# Altium footprint library TerminalBlock.PcbLib: 56 footprints (part 2 of 4)
Each footprint in its own frame and in the unit in brackets; x right, y up, seen from the top. Pads: shape width x height; smd on the part's side, far side on the other; paste and mask are expansions set on the pad; w line width, h text height; cw(c..) or ccw(c..) is an arc to the next point about the centre after c.
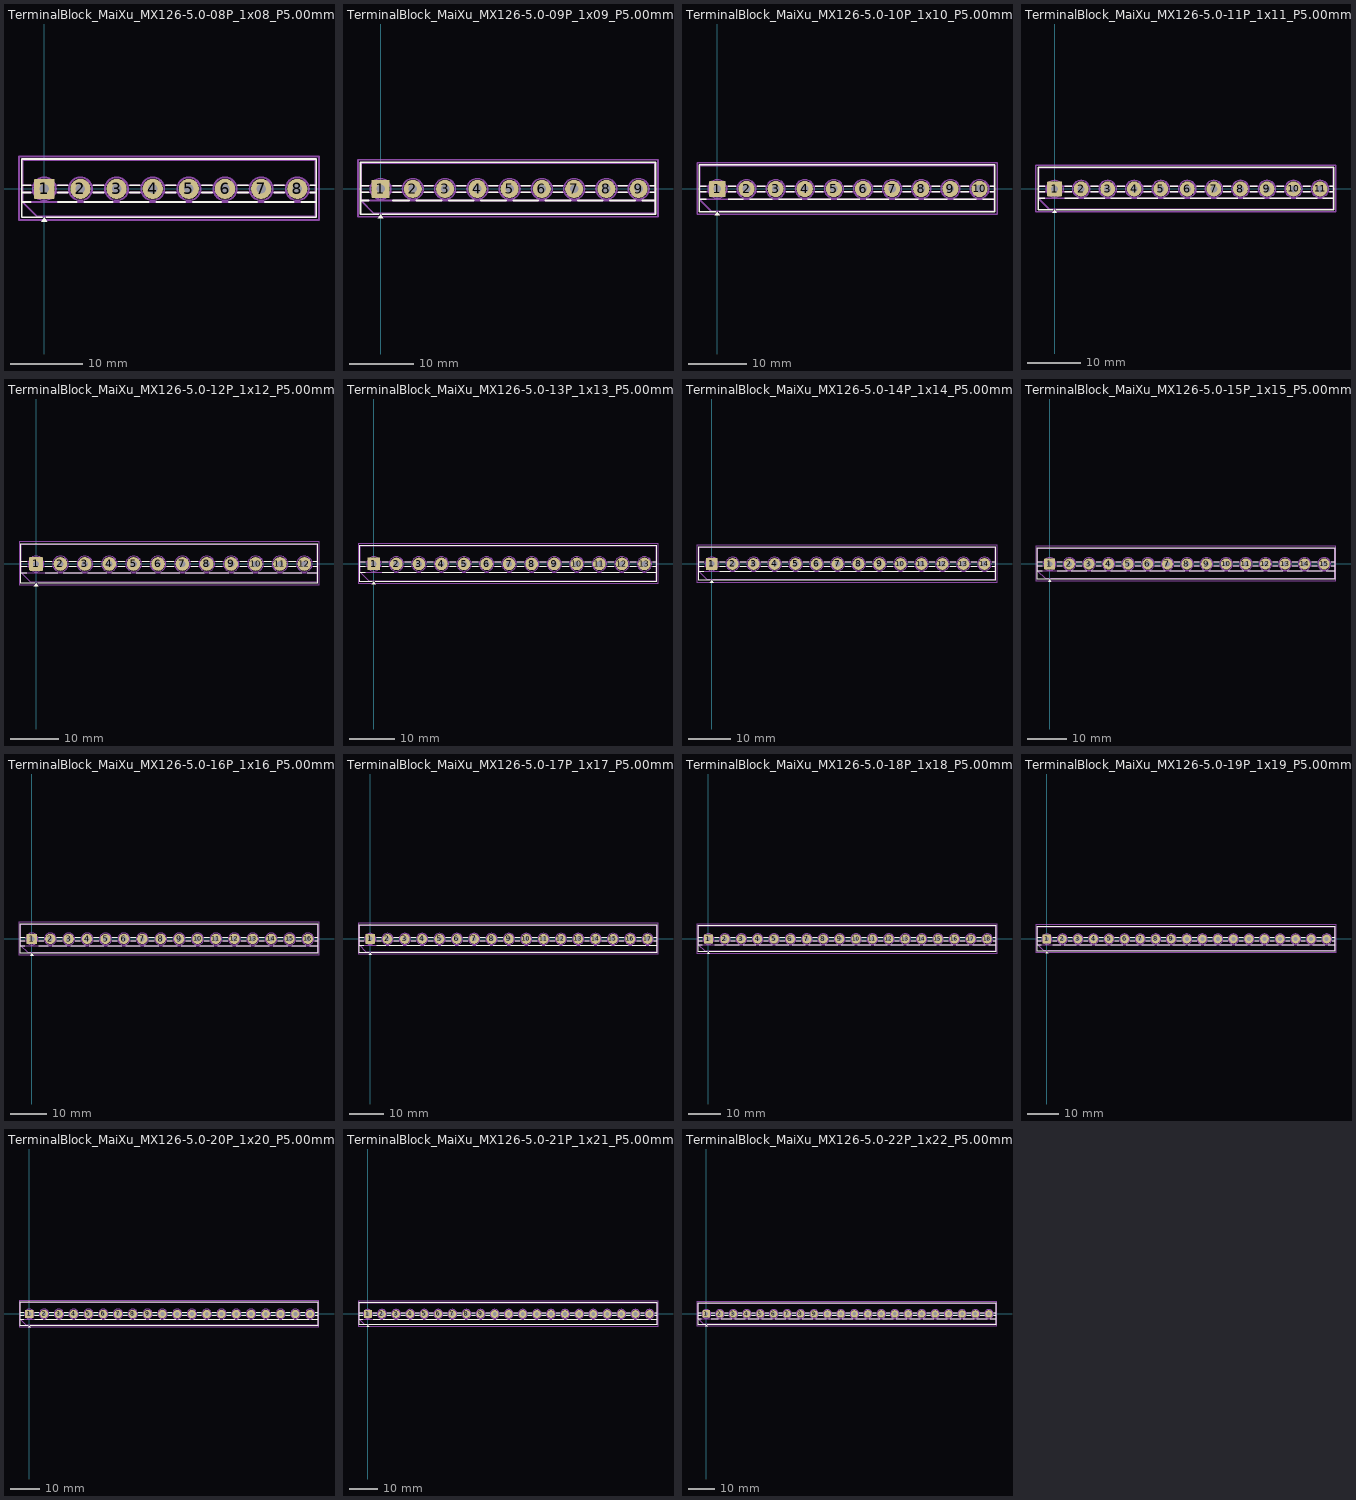
[diagram p1: the footprints below, top view; thin cyan lines are the x and y axes]

## TerminalBlock_MaiXu_MX126-5.0-08P_1x08_P5.00mm [mm]
pads (8):
  rrect9% 2.8x2.8 hole 1.3: 1(0,0)
  round 2.8 hole 1.3: 2(5,0) 3(10,0) 4(15,0) 5(20,0) 6(25,0) 7(30,0) 8(35,0)
F.SilkS:
  region: 0.44,-4.53 -0.44,-4.53 0,-3.92
  lines w0.254: -3.12,-1.8 -1.88,-1.8 ; -3.12,-0.5 -1.88,-0.5 ; -3.12,0.5 -1.88,0.5 ; -0.3,-3.92 -3.12,-3.92 -3.12,4.12 37.62,4.12 37.62,-3.92 0.3,-3.92 ; 1.88,-1.8 4.457,-1.8 ; 1.88,-0.5 3.188,-0.5 ; 1.88,0.5 3.188,0.5 ; 5.543,-1.8 9.457,-1.8 ; 6.812,-0.5 8.188,-0.5 ; 6.812,0.5 8.188,0.5 ; 10.543,-1.8 14.457,-1.8 ; 11.812,-0.5 13.188,-0.5 ; 11.812,0.5 13.188,0.5 ; 15.543,-1.8 19.457,-1.8 ; 16.812,-0.5 18.188,-0.5 ; 16.812,0.5 18.188,0.5 ; 20.543,-1.8 24.457,-1.8 ; 21.812,-0.5 23.188,-0.5 ; 21.812,0.5 23.188,0.5 ; 25.543,-1.8 29.457,-1.8 ; 26.812,-0.5 28.188,-0.5 ; 26.812,0.5 28.188,0.5 ; 30.543,-1.8 34.457,-1.8 ; 31.812,-0.5 33.188,-0.5 ; 31.812,0.5 33.188,0.5 ; 35.543,-1.8 37.62,-1.8 ; 36.812,-0.5 37.62,-0.5 ; 36.812,0.5 37.62,0.5
F.Fab:
  circle w0.254: c0,0 r1.6
  circle w0.254: c5,0 r1.6
  circle w0.254: c10,0 r1.6
  circle w0.254: c15,0 r1.6
  circle w0.254: c20,0 r1.6
  circle w0.254: c25,0 r1.6
  circle w0.254: c30,0 r1.6
  circle w0.254: c35,0 r1.6
  lines w0.254: -3,-1.8 37.5,-1.8 ; -3,-0.5 37.5,-0.5 ; -3,0.5 37.5,0.5 ; -1.213,-1.018 1.018,1.213 ; -1.018,-1.213 1.213,1.018 ; 3.787,-1.018 6.018,1.213 ; 3.982,-1.213 6.213,1.018 ; 8.787,-1.018 11.018,1.213 ; 8.982,-1.213 11.213,1.018 ; 13.787,-1.018 16.018,1.213 ; 13.982,-1.213 16.213,1.018 ; 18.787,-1.018 21.018,1.213 ; 18.982,-1.213 21.213,1.018 ; 23.787,-1.018 26.018,1.213 ; 23.982,-1.213 26.213,1.018 ; 28.787,-1.018 31.018,1.213 ; 28.982,-1.213 31.213,1.018 ; 33.787,-1.018 36.018,1.213 ; 33.982,-1.213 36.213,1.018 ; -3,-1.85 -3,4 37.5,4 37.5,-3.8 -1.05,-3.8 -3,-1.85
  text "'.Designator'" at 13.203,-3.49 h1
F.CrtYd:
  lines w0.254: -3.5,-4.31 -3.5,4.5 38,4.5 38,-4.31 -3.5,-4.31

## TerminalBlock_MaiXu_MX126-5.0-09P_1x09_P5.00mm [mm]
pads (9):
  rrect9% 2.8x2.8 hole 1.3: 1(0,0)
  round 2.8 hole 1.3: 2(5,0) 3(10,0) 4(15,0) 5(20,0) 6(25,0) 7(30,0) 8(35,0) 9(40,0)
F.SilkS:
  region: 0.44,-4.53 -0.44,-4.53 0,-3.92
  lines w0.254: -3.12,-1.8 -1.88,-1.8 ; -3.12,-0.5 -1.88,-0.5 ; -3.12,0.5 -1.88,0.5 ; -0.3,-3.92 -3.12,-3.92 -3.12,4.12 42.62,4.12 42.62,-3.92 0.3,-3.92 ; 1.88,-1.8 4.457,-1.8 ; 1.88,-0.5 3.188,-0.5 ; 1.88,0.5 3.188,0.5 ; 5.543,-1.8 9.457,-1.8 ; 6.812,-0.5 8.188,-0.5 ; 6.812,0.5 8.188,0.5 ; 10.543,-1.8 14.457,-1.8 ; 11.812,-0.5 13.188,-0.5 ; 11.812,0.5 13.188,0.5 ; 15.543,-1.8 19.457,-1.8 ; 16.812,-0.5 18.188,-0.5 ; 16.812,0.5 18.188,0.5 ; 20.543,-1.8 24.457,-1.8 ; 21.812,-0.5 23.188,-0.5 ; 21.812,0.5 23.188,0.5 ; 25.543,-1.8 29.457,-1.8 ; 26.812,-0.5 28.188,-0.5 ; 26.812,0.5 28.188,0.5 ; 30.543,-1.8 34.457,-1.8 ; 31.812,-0.5 33.188,-0.5 ; 31.812,0.5 33.188,0.5 ; 35.543,-1.8 39.457,-1.8 ; 36.812,-0.5 38.188,-0.5 ; 36.812,0.5 38.188,0.5 ; 40.543,-1.8 42.62,-1.8 ; 41.812,-0.5 42.62,-0.5 ; 41.812,0.5 42.62,0.5
F.Fab:
  circle w0.254: c0,0 r1.6
  circle w0.254: c5,0 r1.6
  circle w0.254: c10,0 r1.6
  circle w0.254: c15,0 r1.6
  circle w0.254: c20,0 r1.6
  circle w0.254: c25,0 r1.6
  circle w0.254: c30,0 r1.6
  circle w0.254: c35,0 r1.6
  circle w0.254: c40,0 r1.6
  lines w0.254: -3,-1.8 42.5,-1.8 ; -3,-0.5 42.5,-0.5 ; -3,0.5 42.5,0.5 ; -1.213,-1.018 1.018,1.213 ; -1.018,-1.213 1.213,1.018 ; 3.787,-1.018 6.018,1.213 ; 3.982,-1.213 6.213,1.018 ; 8.787,-1.018 11.018,1.213 ; 8.982,-1.213 11.213,1.018 ; 13.787,-1.018 16.018,1.213 ; 13.982,-1.213 16.213,1.018 ; 18.787,-1.018 21.018,1.213 ; 18.982,-1.213 21.213,1.018 ; 23.787,-1.018 26.018,1.213 ; 23.982,-1.213 26.213,1.018 ; 28.787,-1.018 31.018,1.213 ; 28.982,-1.213 31.213,1.018 ; 33.787,-1.018 36.018,1.213 ; 33.982,-1.213 36.213,1.018 ; 38.787,-1.018 41.018,1.213 ; 38.982,-1.213 41.213,1.018 ; -3,-1.85 -3,4 42.5,4 42.5,-3.8 -1.05,-3.8 -3,-1.85
  text "'.Designator'" at 15.703,-3.49 h1
F.CrtYd:
  lines w0.254: -3.5,-4.31 -3.5,4.5 43,4.5 43,-4.31 -3.5,-4.31

## TerminalBlock_MaiXu_MX126-5.0-10P_1x10_P5.00mm [mm]
pads (10):
  rrect9% 2.8x2.8 hole 1.3: 1(0,0)
  round 2.8 hole 1.3: 2(5,0) 3(10,0) 4(15,0) 5(20,0) 6(25,0) 7(30,0) 8(35,0) 9(40,0) 10(45,0)
F.SilkS:
  region: 0.44,-4.53 -0.44,-4.53 0,-3.92
  lines w0.254: -3.12,-1.8 -1.88,-1.8 ; -3.12,-0.5 -1.88,-0.5 ; -3.12,0.5 -1.88,0.5 ; -0.3,-3.92 -3.12,-3.92 -3.12,4.12 47.62,4.12 47.62,-3.92 0.3,-3.92 ; 1.88,-1.8 4.457,-1.8 ; 1.88,-0.5 3.188,-0.5 ; 1.88,0.5 3.188,0.5 ; 5.543,-1.8 9.457,-1.8 ; 6.812,-0.5 8.188,-0.5 ; 6.812,0.5 8.188,0.5 ; 10.543,-1.8 14.457,-1.8 ; 11.812,-0.5 13.188,-0.5 ; 11.812,0.5 13.188,0.5 ; 15.543,-1.8 19.457,-1.8 ; 16.812,-0.5 18.188,-0.5 ; 16.812,0.5 18.188,0.5 ; 20.543,-1.8 24.457,-1.8 ; 21.812,-0.5 23.188,-0.5 ; 21.812,0.5 23.188,0.5 ; 25.543,-1.8 29.457,-1.8 ; 26.812,-0.5 28.188,-0.5 ; 26.812,0.5 28.188,0.5 ; 30.543,-1.8 34.457,-1.8 ; 31.812,-0.5 33.188,-0.5 ; 31.812,0.5 33.188,0.5 ; 35.543,-1.8 39.457,-1.8 ; 36.812,-0.5 38.188,-0.5 ; 36.812,0.5 38.188,0.5 ; 40.543,-1.8 44.457,-1.8 ; 41.812,-0.5 43.188,-0.5 ; 41.812,0.5 43.188,0.5 ; 45.543,-1.8 47.62,-1.8 ; 46.812,-0.5 47.62,-0.5 ; 46.812,0.5 47.62,0.5
F.Fab:
  circle w0.254: c0,0 r1.6
  circle w0.254: c5,0 r1.6
  circle w0.254: c10,0 r1.6
  circle w0.254: c15,0 r1.6
  circle w0.254: c20,0 r1.6
  circle w0.254: c25,0 r1.6
  circle w0.254: c30,0 r1.6
  circle w0.254: c35,0 r1.6
  circle w0.254: c40,0 r1.6
  circle w0.254: c45,0 r1.6
  lines w0.254: -3,-1.8 47.5,-1.8 ; -3,-0.5 47.5,-0.5 ; -3,0.5 47.5,0.5 ; -1.213,-1.018 1.018,1.213 ; -1.018,-1.213 1.213,1.018 ; 3.787,-1.018 6.018,1.213 ; 3.982,-1.213 6.213,1.018 ; 8.787,-1.018 11.018,1.213 ; 8.982,-1.213 11.213,1.018 ; 13.787,-1.018 16.018,1.213 ; 13.982,-1.213 16.213,1.018 ; 18.787,-1.018 21.018,1.213 ; 18.982,-1.213 21.213,1.018 ; 23.787,-1.018 26.018,1.213 ; 23.982,-1.213 26.213,1.018 ; 28.787,-1.018 31.018,1.213 ; 28.982,-1.213 31.213,1.018 ; 33.787,-1.018 36.018,1.213 ; 33.982,-1.213 36.213,1.018 ; 38.787,-1.018 41.018,1.213 ; 38.982,-1.213 41.213,1.018 ; 43.787,-1.018 46.018,1.213 ; 43.982,-1.213 46.213,1.018 ; -3,-1.85 -3,4 47.5,4 47.5,-3.8 -1.05,-3.8 -3,-1.85
  text "'.Designator'" at 18.203,-3.49 h1
F.CrtYd:
  lines w0.254: -3.5,-4.31 -3.5,4.5 48,4.5 48,-4.31 -3.5,-4.31

## TerminalBlock_MaiXu_MX126-5.0-11P_1x11_P5.00mm [mm]
pads (11):
  rrect9% 2.8x2.8 hole 1.3: 1(0,0)
  round 2.8 hole 1.3: 2(5,0) 3(10,0) 4(15,0) 5(20,0) 6(25,0) 7(30,0) 8(35,0) 9(40,0) 10(45,0) 11(50,0)
F.SilkS:
  region: 0.44,-4.53 -0.44,-4.53 0,-3.92
  lines w0.254: -3.12,-1.8 -1.88,-1.8 ; -3.12,-0.5 -1.88,-0.5 ; -3.12,0.5 -1.88,0.5 ; -0.3,-3.92 -3.12,-3.92 -3.12,4.12 52.62,4.12 52.62,-3.92 0.3,-3.92 ; 1.88,-1.8 4.457,-1.8 ; 1.88,-0.5 3.188,-0.5 ; 1.88,0.5 3.188,0.5 ; 5.543,-1.8 9.457,-1.8 ; 6.812,-0.5 8.188,-0.5 ; 6.812,0.5 8.188,0.5 ; 10.543,-1.8 14.457,-1.8 ; 11.812,-0.5 13.188,-0.5 ; 11.812,0.5 13.188,0.5 ; 15.543,-1.8 19.457,-1.8 ; 16.812,-0.5 18.188,-0.5 ; 16.812,0.5 18.188,0.5 ; 20.543,-1.8 24.457,-1.8 ; 21.812,-0.5 23.188,-0.5 ; 21.812,0.5 23.188,0.5 ; 25.543,-1.8 29.457,-1.8 ; 26.812,-0.5 28.188,-0.5 ; 26.812,0.5 28.188,0.5 ; 30.543,-1.8 34.457,-1.8 ; 31.812,-0.5 33.188,-0.5 ; 31.812,0.5 33.188,0.5 ; 35.543,-1.8 39.457,-1.8 ; 36.812,-0.5 38.188,-0.5 ; 36.812,0.5 38.188,0.5 ; 40.543,-1.8 44.457,-1.8 ; 41.812,-0.5 43.188,-0.5 ; 41.812,0.5 43.188,0.5 ; 45.543,-1.8 49.457,-1.8 ; 46.812,-0.5 48.188,-0.5 ; 46.812,0.5 48.188,0.5 ; 50.543,-1.8 52.62,-1.8 ; 51.812,-0.5 52.62,-0.5 ; 51.812,0.5 52.62,0.5
F.Fab:
  circle w0.254: c0,0 r1.6
  circle w0.254: c5,0 r1.6
  circle w0.254: c10,0 r1.6
  circle w0.254: c15,0 r1.6
  circle w0.254: c20,0 r1.6
  circle w0.254: c25,0 r1.6
  circle w0.254: c30,0 r1.6
  circle w0.254: c35,0 r1.6
  circle w0.254: c40,0 r1.6
  circle w0.254: c45,0 r1.6
  circle w0.254: c50,0 r1.6
  lines w0.254: -3,-1.8 52.5,-1.8 ; -3,-0.5 52.5,-0.5 ; -3,0.5 52.5,0.5 ; -1.213,-1.018 1.018,1.213 ; -1.018,-1.213 1.213,1.018 ; 3.787,-1.018 6.018,1.213 ; 3.982,-1.213 6.213,1.018 ; 8.787,-1.018 11.018,1.213 ; 8.982,-1.213 11.213,1.018 ; 13.787,-1.018 16.018,1.213 ; 13.982,-1.213 16.213,1.018 ; 18.787,-1.018 21.018,1.213 ; 18.982,-1.213 21.213,1.018 ; 23.787,-1.018 26.018,1.213 ; 23.982,-1.213 26.213,1.018 ; 28.787,-1.018 31.018,1.213 ; 28.982,-1.213 31.213,1.018 ; 33.787,-1.018 36.018,1.213 ; 33.982,-1.213 36.213,1.018 ; 38.787,-1.018 41.018,1.213 ; 38.982,-1.213 41.213,1.018 ; 43.787,-1.018 46.018,1.213 ; 43.982,-1.213 46.213,1.018 ; 48.787,-1.018 51.018,1.213 ; 48.982,-1.213 51.213,1.018 ; -3,-1.85 -3,4 52.5,4 52.5,-3.8 -1.05,-3.8 -3,-1.85
  text "'.Designator'" at 20.703,-3.49 h1
F.CrtYd:
  lines w0.254: -3.5,-4.31 -3.5,4.5 53,4.5 53,-4.31 -3.5,-4.31

## TerminalBlock_MaiXu_MX126-5.0-12P_1x12_P5.00mm [mm]
pads (12):
  rrect9% 2.8x2.8 hole 1.3: 1(0,0)
  round 2.8 hole 1.3: 2(5,0) 3(10,0) 4(15,0) 5(20,0) 6(25,0) 7(30,0) 8(35,0) 9(40,0) 10(45,0) 11(50,0) 12(55,0)
F.SilkS:
  region: 0.44,-4.53 -0.44,-4.53 0,-3.92
  lines w0.254: -3.12,-1.8 -1.88,-1.8 ; -3.12,-0.5 -1.88,-0.5 ; -3.12,0.5 -1.88,0.5 ; -0.3,-3.92 -3.12,-3.92 -3.12,4.12 57.62,4.12 57.62,-3.92 0.3,-3.92 ; 1.88,-1.8 4.457,-1.8 ; 1.88,-0.5 3.188,-0.5 ; 1.88,0.5 3.188,0.5 ; 5.543,-1.8 9.457,-1.8 ; 6.812,-0.5 8.188,-0.5 ; 6.812,0.5 8.188,0.5 ; 10.543,-1.8 14.457,-1.8 ; 11.812,-0.5 13.188,-0.5 ; 11.812,0.5 13.188,0.5 ; 15.543,-1.8 19.457,-1.8 ; 16.812,-0.5 18.188,-0.5 ; 16.812,0.5 18.188,0.5 ; 20.543,-1.8 24.457,-1.8 ; 21.812,-0.5 23.188,-0.5 ; 21.812,0.5 23.188,0.5 ; 25.543,-1.8 29.457,-1.8 ; 26.812,-0.5 28.188,-0.5 ; 26.812,0.5 28.188,0.5 ; 30.543,-1.8 34.457,-1.8 ; 31.812,-0.5 33.188,-0.5 ; 31.812,0.5 33.188,0.5 ; 35.543,-1.8 39.457,-1.8 ; 36.812,-0.5 38.188,-0.5 ; 36.812,0.5 38.188,0.5 ; 40.543,-1.8 44.457,-1.8 ; 41.812,-0.5 43.188,-0.5 ; 41.812,0.5 43.188,0.5 ; 45.543,-1.8 49.457,-1.8 ; 46.812,-0.5 48.188,-0.5 ; 46.812,0.5 48.188,0.5 ; 50.543,-1.8 54.457,-1.8 ; 51.812,-0.5 53.188,-0.5 ; 51.812,0.5 53.188,0.5 ; 55.543,-1.8 57.62,-1.8 ; 56.812,-0.5 57.62,-0.5 ; 56.812,0.5 57.62,0.5
F.Fab:
  circle w0.254: c0,0 r1.6
  circle w0.254: c5,0 r1.6
  circle w0.254: c10,0 r1.6
  circle w0.254: c15,0 r1.6
  circle w0.254: c20,0 r1.6
  circle w0.254: c25,0 r1.6
  circle w0.254: c30,0 r1.6
  circle w0.254: c35,0 r1.6
  circle w0.254: c40,0 r1.6
  circle w0.254: c45,0 r1.6
  circle w0.254: c50,0 r1.6
  circle w0.254: c55,0 r1.6
  lines w0.254: -3,-1.8 57.5,-1.8 ; -3,-0.5 57.5,-0.5 ; -3,0.5 57.5,0.5 ; -1.213,-1.018 1.018,1.213 ; -1.018,-1.213 1.213,1.018 ; 3.787,-1.018 6.018,1.213 ; 3.982,-1.213 6.213,1.018 ; 8.787,-1.018 11.018,1.213 ; 8.982,-1.213 11.213,1.018 ; 13.787,-1.018 16.018,1.213 ; 13.982,-1.213 16.213,1.018 ; 18.787,-1.018 21.018,1.213 ; 18.982,-1.213 21.213,1.018 ; 23.787,-1.018 26.018,1.213 ; 23.982,-1.213 26.213,1.018 ; 28.787,-1.018 31.018,1.213 ; 28.982,-1.213 31.213,1.018 ; 33.787,-1.018 36.018,1.213 ; 33.982,-1.213 36.213,1.018 ; 38.787,-1.018 41.018,1.213 ; 38.982,-1.213 41.213,1.018 ; 43.787,-1.018 46.018,1.213 ; 43.982,-1.213 46.213,1.018 ; 48.787,-1.018 51.018,1.213 ; 48.982,-1.213 51.213,1.018 ; 53.787,-1.018 56.018,1.213 ; 53.982,-1.213 56.213,1.018 ; -3,-1.85 -3,4 57.5,4 57.5,-3.8 -1.05,-3.8 -3,-1.85
  text "'.Designator'" at 23.203,-3.49 h1
F.CrtYd:
  lines w0.254: -3.5,-4.31 -3.5,4.5 58,4.5 58,-4.31 -3.5,-4.31

## TerminalBlock_MaiXu_MX126-5.0-13P_1x13_P5.00mm [mm]
pads (13):
  rrect9% 2.8x2.8 hole 1.3: 1(0,0)
  round 2.8 hole 1.3: 2(5,0) 3(10,0) 4(15,0) 5(20,0) 6(25,0) 7(30,0) 8(35,0) 9(40,0) 10(45,0) 11(50,0) 12(55,0) 13(60,0)
F.SilkS:
  region: 0.44,-4.53 -0.44,-4.53 0,-3.92
  lines w0.254: -3.12,-1.8 -1.88,-1.8 ; -3.12,-0.5 -1.88,-0.5 ; -3.12,0.5 -1.88,0.5 ; -0.3,-3.92 -3.12,-3.92 -3.12,4.12 62.62,4.12 62.62,-3.92 0.3,-3.92 ; 1.88,-1.8 4.457,-1.8 ; 1.88,-0.5 3.188,-0.5 ; 1.88,0.5 3.188,0.5 ; 5.543,-1.8 9.457,-1.8 ; 6.812,-0.5 8.188,-0.5 ; 6.812,0.5 8.188,0.5 ; 10.543,-1.8 14.457,-1.8 ; 11.812,-0.5 13.188,-0.5 ; 11.812,0.5 13.188,0.5 ; 15.543,-1.8 19.457,-1.8 ; 16.812,-0.5 18.188,-0.5 ; 16.812,0.5 18.188,0.5 ; 20.543,-1.8 24.457,-1.8 ; 21.812,-0.5 23.188,-0.5 ; 21.812,0.5 23.188,0.5 ; 25.543,-1.8 29.457,-1.8 ; 26.812,-0.5 28.188,-0.5 ; 26.812,0.5 28.188,0.5 ; 30.543,-1.8 34.457,-1.8 ; 31.812,-0.5 33.188,-0.5 ; 31.812,0.5 33.188,0.5 ; 35.543,-1.8 39.457,-1.8 ; 36.812,-0.5 38.188,-0.5 ; 36.812,0.5 38.188,0.5 ; 40.543,-1.8 44.457,-1.8 ; 41.812,-0.5 43.188,-0.5 ; 41.812,0.5 43.188,0.5 ; 45.543,-1.8 49.457,-1.8 ; 46.812,-0.5 48.188,-0.5 ; 46.812,0.5 48.188,0.5 ; 50.543,-1.8 54.457,-1.8 ; 51.812,-0.5 53.188,-0.5 ; 51.812,0.5 53.188,0.5 ; 55.543,-1.8 59.457,-1.8 ; 56.812,-0.5 58.188,-0.5 ; 56.812,0.5 58.188,0.5 ; 60.543,-1.8 62.62,-1.8 ; 61.812,-0.5 62.62,-0.5 ; 61.812,0.5 62.62,0.5
F.Fab:
  circle w0.254: c0,0 r1.6
  circle w0.254: c5,0 r1.6
  circle w0.254: c10,0 r1.6
  circle w0.254: c15,0 r1.6
  circle w0.254: c20,0 r1.6
  circle w0.254: c25,0 r1.6
  circle w0.254: c30,0 r1.6
  circle w0.254: c35,0 r1.6
  circle w0.254: c40,0 r1.6
  circle w0.254: c45,0 r1.6
  circle w0.254: c50,0 r1.6
  circle w0.254: c55,0 r1.6
  circle w0.254: c60,0 r1.6
  lines w0.254: -3,-1.8 62.5,-1.8 ; -3,-0.5 62.5,-0.5 ; -3,0.5 62.5,0.5 ; -1.213,-1.018 1.018,1.213 ; -1.018,-1.213 1.213,1.018 ; 3.787,-1.018 6.018,1.213 ; 3.982,-1.213 6.213,1.018 ; 8.787,-1.018 11.018,1.213 ; 8.982,-1.213 11.213,1.018 ; 13.787,-1.018 16.018,1.213 ; 13.982,-1.213 16.213,1.018 ; 18.787,-1.018 21.018,1.213 ; 18.982,-1.213 21.213,1.018 ; 23.787,-1.018 26.018,1.213 ; 23.982,-1.213 26.213,1.018 ; 28.787,-1.018 31.018,1.213 ; 28.982,-1.213 31.213,1.018 ; 33.787,-1.018 36.018,1.213 ; 33.982,-1.213 36.213,1.018 ; 38.787,-1.018 41.018,1.213 ; 38.982,-1.213 41.213,1.018 ; 43.787,-1.018 46.018,1.213 ; 43.982,-1.213 46.213,1.018 ; 48.787,-1.018 51.018,1.213 ; 48.982,-1.213 51.213,1.018 ; 53.787,-1.018 56.018,1.213 ; 53.982,-1.213 56.213,1.018 ; 58.787,-1.018 61.018,1.213 ; 58.982,-1.213 61.213,1.018 ; -3,-1.85 -3,4 62.5,4 62.5,-3.8 -1.05,-3.8 -3,-1.85
  text "'.Designator'" at 25.703,-3.49 h1
F.CrtYd:
  lines w0.254: -3.5,-4.31 -3.5,4.5 63,4.5 63,-4.31 -3.5,-4.31

## TerminalBlock_MaiXu_MX126-5.0-14P_1x14_P5.00mm [mm]
pads (14):
  rrect9% 2.8x2.8 hole 1.3: 1(0,0)
  round 2.8 hole 1.3: 2(5,0) 3(10,0) 4(15,0) 5(20,0) 6(25,0) 7(30,0) 8(35,0) 9(40,0) 10(45,0) 11(50,0) 12(55,0) 13(60,0) 14(65,0)
F.SilkS:
  region: 0.44,-4.53 -0.44,-4.53 0,-3.92
  lines w0.254: -3.12,-1.8 -1.88,-1.8 ; -3.12,-0.5 -1.88,-0.5 ; -3.12,0.5 -1.88,0.5 ; -0.3,-3.92 -3.12,-3.92 -3.12,4.12 67.62,4.12 67.62,-3.92 0.3,-3.92 ; 1.88,-1.8 4.457,-1.8 ; 1.88,-0.5 3.188,-0.5 ; 1.88,0.5 3.188,0.5 ; 5.543,-1.8 9.457,-1.8 ; 6.812,-0.5 8.188,-0.5 ; 6.812,0.5 8.188,0.5 ; 10.543,-1.8 14.457,-1.8 ; 11.812,-0.5 13.188,-0.5 ; 11.812,0.5 13.188,0.5 ; 15.543,-1.8 19.457,-1.8 ; 16.812,-0.5 18.188,-0.5 ; 16.812,0.5 18.188,0.5 ; 20.543,-1.8 24.457,-1.8 ; 21.812,-0.5 23.188,-0.5 ; 21.812,0.5 23.188,0.5 ; 25.543,-1.8 29.457,-1.8 ; 26.812,-0.5 28.188,-0.5 ; 26.812,0.5 28.188,0.5 ; 30.543,-1.8 34.457,-1.8 ; 31.812,-0.5 33.188,-0.5 ; 31.812,0.5 33.188,0.5 ; 35.543,-1.8 39.457,-1.8 ; 36.812,-0.5 38.188,-0.5 ; 36.812,0.5 38.188,0.5 ; 40.543,-1.8 44.457,-1.8 ; 41.812,-0.5 43.188,-0.5 ; 41.812,0.5 43.188,0.5 ; 45.543,-1.8 49.457,-1.8 ; 46.812,-0.5 48.188,-0.5 ; 46.812,0.5 48.188,0.5 ; 50.543,-1.8 54.457,-1.8 ; 51.812,-0.5 53.188,-0.5 ; 51.812,0.5 53.188,0.5 ; 55.543,-1.8 59.457,-1.8 ; 56.812,-0.5 58.188,-0.5 ; 56.812,0.5 58.188,0.5 ; 60.543,-1.8 64.457,-1.8 ; 61.812,-0.5 63.188,-0.5 ; 61.812,0.5 63.188,0.5 ; 65.543,-1.8 67.62,-1.8 ; 66.812,-0.5 67.62,-0.5 ; 66.812,0.5 67.62,0.5
F.Fab:
  circle w0.254: c0,0 r1.6
  circle w0.254: c5,0 r1.6
  circle w0.254: c10,0 r1.6
  circle w0.254: c15,0 r1.6
  circle w0.254: c20,0 r1.6
  circle w0.254: c25,0 r1.6
  circle w0.254: c30,0 r1.6
  circle w0.254: c35,0 r1.6
  circle w0.254: c40,0 r1.6
  circle w0.254: c45,0 r1.6
  circle w0.254: c50,0 r1.6
  circle w0.254: c55,0 r1.6
  circle w0.254: c60,0 r1.6
  circle w0.254: c65,0 r1.6
  lines w0.254: -3,-1.8 67.5,-1.8 ; -3,-0.5 67.5,-0.5 ; -3,0.5 67.5,0.5 ; -1.213,-1.018 1.018,1.213 ; -1.018,-1.213 1.213,1.018 ; 3.787,-1.018 6.018,1.213 ; 3.982,-1.213 6.213,1.018 ; 8.787,-1.018 11.018,1.213 ; 8.982,-1.213 11.213,1.018 ; 13.787,-1.018 16.018,1.213 ; 13.982,-1.213 16.213,1.018 ; 18.787,-1.018 21.018,1.213 ; 18.982,-1.213 21.213,1.018 ; 23.787,-1.018 26.018,1.213 ; 23.982,-1.213 26.213,1.018 ; 28.787,-1.018 31.018,1.213 ; 28.982,-1.213 31.213,1.018 ; 33.787,-1.018 36.018,1.213 ; 33.982,-1.213 36.213,1.018 ; 38.787,-1.018 41.018,1.213 ; 38.982,-1.213 41.213,1.018 ; 43.787,-1.018 46.018,1.213 ; 43.982,-1.213 46.213,1.018 ; 48.787,-1.018 51.018,1.213 ; 48.982,-1.213 51.213,1.018 ; 53.787,-1.018 56.018,1.213 ; 53.982,-1.213 56.213,1.018 ; 58.787,-1.018 61.018,1.213 ; 58.982,-1.213 61.213,1.018 ; 63.787,-1.018 66.018,1.213 ; 63.982,-1.213 66.213,1.018 ; -3,-1.85 -3,4 67.5,4 67.5,-3.8 -1.05,-3.8 -3,-1.85
  text "'.Designator'" at 28.203,-3.49 h1
F.CrtYd:
  lines w0.254: -3.5,-4.31 -3.5,4.5 68,4.5 68,-4.31 -3.5,-4.31

## TerminalBlock_MaiXu_MX126-5.0-15P_1x15_P5.00mm [mm]
pads (15):
  rrect9% 2.8x2.8 hole 1.3: 1(0,0)
  round 2.8 hole 1.3: 2(5,0) 3(10,0) 4(15,0) 5(20,0) 6(25,0) 7(30,0) 8(35,0) 9(40,0) 10(45,0) 11(50,0) 12(55,0) 13(60,0) 14(65,0) 15(70,0)
F.SilkS:
  region: 0.44,-4.53 -0.44,-4.53 0,-3.92
  lines w0.254: -3.12,-1.8 -1.88,-1.8 ; -3.12,-0.5 -1.88,-0.5 ; -3.12,0.5 -1.88,0.5 ; -0.3,-3.92 -3.12,-3.92 -3.12,4.12 72.62,4.12 72.62,-3.92 0.3,-3.92 ; 1.88,-1.8 4.457,-1.8 ; 1.88,-0.5 3.188,-0.5 ; 1.88,0.5 3.188,0.5 ; 5.543,-1.8 9.457,-1.8 ; 6.812,-0.5 8.188,-0.5 ; 6.812,0.5 8.188,0.5 ; 10.543,-1.8 14.457,-1.8 ; 11.812,-0.5 13.188,-0.5 ; 11.812,0.5 13.188,0.5 ; 15.543,-1.8 19.457,-1.8 ; 16.812,-0.5 18.188,-0.5 ; 16.812,0.5 18.188,0.5 ; 20.543,-1.8 24.457,-1.8 ; 21.812,-0.5 23.188,-0.5 ; 21.812,0.5 23.188,0.5 ; 25.543,-1.8 29.457,-1.8 ; 26.812,-0.5 28.188,-0.5 ; 26.812,0.5 28.188,0.5 ; 30.543,-1.8 34.457,-1.8 ; 31.812,-0.5 33.188,-0.5 ; 31.812,0.5 33.188,0.5 ; 35.543,-1.8 39.457,-1.8 ; 36.812,-0.5 38.188,-0.5 ; 36.812,0.5 38.188,0.5 ; 40.543,-1.8 44.457,-1.8 ; 41.812,-0.5 43.188,-0.5 ; 41.812,0.5 43.188,0.5 ; 45.543,-1.8 49.457,-1.8 ; 46.812,-0.5 48.188,-0.5 ; 46.812,0.5 48.188,0.5 ; 50.543,-1.8 54.457,-1.8 ; 51.812,-0.5 53.188,-0.5 ; 51.812,0.5 53.188,0.5 ; 55.543,-1.8 59.457,-1.8 ; 56.812,-0.5 58.188,-0.5 ; 56.812,0.5 58.188,0.5 ; 60.543,-1.8 64.457,-1.8 ; 61.812,-0.5 63.188,-0.5 ; 61.812,0.5 63.188,0.5 ; 65.543,-1.8 69.457,-1.8 ; 66.812,-0.5 68.188,-0.5 ; 66.812,0.5 68.188,0.5 ; 70.543,-1.8 72.62,-1.8 ; 71.812,-0.5 72.62,-0.5 ; 71.812,0.5 72.62,0.5
F.Fab:
  circle w0.254: c0,0 r1.6
  circle w0.254: c5,0 r1.6
  circle w0.254: c10,0 r1.6
  circle w0.254: c15,0 r1.6
  circle w0.254: c20,0 r1.6
  circle w0.254: c25,0 r1.6
  circle w0.254: c30,0 r1.6
  circle w0.254: c35,0 r1.6
  circle w0.254: c40,0 r1.6
  circle w0.254: c45,0 r1.6
  circle w0.254: c50,0 r1.6
  circle w0.254: c55,0 r1.6
  circle w0.254: c60,0 r1.6
  circle w0.254: c65,0 r1.6
  circle w0.254: c70,0 r1.6
  lines w0.254: -3,-1.8 72.5,-1.8 ; -3,-0.5 72.5,-0.5 ; -3,0.5 72.5,0.5 ; -1.213,-1.018 1.018,1.213 ; -1.018,-1.213 1.213,1.018 ; 3.787,-1.018 6.018,1.213 ; 3.982,-1.213 6.213,1.018 ; 8.787,-1.018 11.018,1.213 ; 8.982,-1.213 11.213,1.018 ; 13.787,-1.018 16.018,1.213 ; 13.982,-1.213 16.213,1.018 ; 18.787,-1.018 21.018,1.213 ; 18.982,-1.213 21.213,1.018 ; 23.787,-1.018 26.018,1.213 ; 23.982,-1.213 26.213,1.018 ; 28.787,-1.018 31.018,1.213 ; 28.982,-1.213 31.213,1.018 ; 33.787,-1.018 36.018,1.213 ; 33.982,-1.213 36.213,1.018 ; 38.787,-1.018 41.018,1.213 ; 38.982,-1.213 41.213,1.018 ; 43.787,-1.018 46.018,1.213 ; 43.982,-1.213 46.213,1.018 ; 48.787,-1.018 51.018,1.213 ; 48.982,-1.213 51.213,1.018 ; 53.787,-1.018 56.018,1.213 ; 53.982,-1.213 56.213,1.018 ; 58.787,-1.018 61.018,1.213 ; 58.982,-1.213 61.213,1.018 ; 63.787,-1.018 66.018,1.213 ; 63.982,-1.213 66.213,1.018 ; 68.787,-1.018 71.018,1.213 ; 68.982,-1.213 71.213,1.018 ; -3,-1.85 -3,4 72.5,4 72.5,-3.8 -1.05,-3.8 -3,-1.85
  text "'.Designator'" at 30.703,-3.49 h1
F.CrtYd:
  lines w0.254: -3.5,-4.31 -3.5,4.5 73,4.5 73,-4.31 -3.5,-4.31

## TerminalBlock_MaiXu_MX126-5.0-16P_1x16_P5.00mm [mm]
pads (16):
  rrect9% 2.8x2.8 hole 1.3: 1(0,0)
  round 2.8 hole 1.3: 2(5,0) 3(10,0) 4(15,0) 5(20,0) 6(25,0) 7(30,0) 8(35,0) 9(40,0) 10(45,0) 11(50,0) 12(55,0) 13(60,0) 14(65,0) 15(70,0) 16(75,0)
F.SilkS:
  region: 0.44,-4.53 -0.44,-4.53 0,-3.92
  lines w0.254: -3.12,-1.8 -1.88,-1.8 ; -3.12,-0.5 -1.88,-0.5 ; -3.12,0.5 -1.88,0.5 ; -0.3,-3.92 -3.12,-3.92 -3.12,4.12 77.62,4.12 77.62,-3.92 0.3,-3.92 ; 1.88,-1.8 4.457,-1.8 ; 1.88,-0.5 3.188,-0.5 ; 1.88,0.5 3.188,0.5 ; 5.543,-1.8 9.457,-1.8 ; 6.812,-0.5 8.188,-0.5 ; 6.812,0.5 8.188,0.5 ; 10.543,-1.8 14.457,-1.8 ; 11.812,-0.5 13.188,-0.5 ; 11.812,0.5 13.188,0.5 ; 15.543,-1.8 19.457,-1.8 ; 16.812,-0.5 18.188,-0.5 ; 16.812,0.5 18.188,0.5 ; 20.543,-1.8 24.457,-1.8 ; 21.812,-0.5 23.188,-0.5 ; 21.812,0.5 23.188,0.5 ; 25.543,-1.8 29.457,-1.8 ; 26.812,-0.5 28.188,-0.5 ; 26.812,0.5 28.188,0.5 ; 30.543,-1.8 34.457,-1.8 ; 31.812,-0.5 33.188,-0.5 ; 31.812,0.5 33.188,0.5 ; 35.543,-1.8 39.457,-1.8 ; 36.812,-0.5 38.188,-0.5 ; 36.812,0.5 38.188,0.5 ; 40.543,-1.8 44.457,-1.8 ; 41.812,-0.5 43.188,-0.5 ; 41.812,0.5 43.188,0.5 ; 45.543,-1.8 49.457,-1.8 ; 46.812,-0.5 48.188,-0.5 ; 46.812,0.5 48.188,0.5 ; 50.543,-1.8 54.457,-1.8 ; 51.812,-0.5 53.188,-0.5 ; 51.812,0.5 53.188,0.5 ; 55.543,-1.8 59.457,-1.8 ; 56.812,-0.5 58.188,-0.5 ; 56.812,0.5 58.188,0.5 ; 60.543,-1.8 64.457,-1.8 ; 61.812,-0.5 63.188,-0.5 ; 61.812,0.5 63.188,0.5 ; 65.543,-1.8 69.457,-1.8 ; 66.812,-0.5 68.188,-0.5 ; 66.812,0.5 68.188,0.5 ; 70.543,-1.8 74.457,-1.8 ; 71.812,-0.5 73.188,-0.5 ; 71.812,0.5 73.188,0.5 ; 75.543,-1.8 77.62,-1.8 ; 76.812,-0.5 77.62,-0.5 ; 76.812,0.5 77.62,0.5
F.Fab:
  circle w0.254: c0,0 r1.6
  circle w0.254: c5,0 r1.6
  circle w0.254: c10,0 r1.6
  circle w0.254: c15,0 r1.6
  circle w0.254: c20,0 r1.6
  circle w0.254: c25,0 r1.6
  circle w0.254: c30,0 r1.6
  circle w0.254: c35,0 r1.6
  circle w0.254: c40,0 r1.6
  circle w0.254: c45,0 r1.6
  circle w0.254: c50,0 r1.6
  circle w0.254: c55,0 r1.6
  circle w0.254: c60,0 r1.6
  circle w0.254: c65,0 r1.6
  circle w0.254: c70,0 r1.6
  circle w0.254: c75,0 r1.6
  lines w0.254: -3,-1.8 77.5,-1.8 ; -3,-0.5 77.5,-0.5 ; -3,0.5 77.5,0.5 ; -1.213,-1.018 1.018,1.213 ; -1.018,-1.213 1.213,1.018 ; 3.787,-1.018 6.018,1.213 ; 3.982,-1.213 6.213,1.018 ; 8.787,-1.018 11.018,1.213 ; 8.982,-1.213 11.213,1.018 ; 13.787,-1.018 16.018,1.213 ; 13.982,-1.213 16.213,1.018 ; 18.787,-1.018 21.018,1.213 ; 18.982,-1.213 21.213,1.018 ; 23.787,-1.018 26.018,1.213 ; 23.982,-1.213 26.213,1.018 ; 28.787,-1.018 31.018,1.213 ; 28.982,-1.213 31.213,1.018 ; 33.787,-1.018 36.018,1.213 ; 33.982,-1.213 36.213,1.018 ; 38.787,-1.018 41.018,1.213 ; 38.982,-1.213 41.213,1.018 ; 43.787,-1.018 46.018,1.213 ; 43.982,-1.213 46.213,1.018 ; 48.787,-1.018 51.018,1.213 ; 48.982,-1.213 51.213,1.018 ; 53.787,-1.018 56.018,1.213 ; 53.982,-1.213 56.213,1.018 ; 58.787,-1.018 61.018,1.213 ; 58.982,-1.213 61.213,1.018 ; 63.787,-1.018 66.018,1.213 ; 63.982,-1.213 66.213,1.018 ; 68.787,-1.018 71.018,1.213 ; 68.982,-1.213 71.213,1.018 ; 73.787,-1.018 76.018,1.213 ; 73.982,-1.213 76.213,1.018 ; -3,-1.85 -3,4 77.5,4 77.5,-3.8 -1.05,-3.8 -3,-1.85
  text "'.Designator'" at 33.203,-3.49 h1
F.CrtYd:
  lines w0.254: -3.5,-4.31 -3.5,4.5 78,4.5 78,-4.31 -3.5,-4.31

## TerminalBlock_MaiXu_MX126-5.0-17P_1x17_P5.00mm [mm]
pads (17):
  rrect9% 2.8x2.8 hole 1.3: 1(0,0)
  round 2.8 hole 1.3: 2(5,0) 3(10,0) 4(15,0) 5(20,0) 6(25,0) 7(30,0) 8(35,0) 9(40,0) 10(45,0) 11(50,0) 12(55,0) 13(60,0) 14(65,0) 15(70,0) 16(75,0) 17(80,0)
F.SilkS:
  region: 0.44,-4.53 -0.44,-4.53 0,-3.92
  lines w0.254: -3.12,-1.8 -1.88,-1.8 ; -3.12,-0.5 -1.88,-0.5 ; -3.12,0.5 -1.88,0.5 ; -0.3,-3.92 -3.12,-3.92 -3.12,4.12 82.62,4.12 82.62,-3.92 0.3,-3.92 ; 1.88,-1.8 4.457,-1.8 ; 1.88,-0.5 3.188,-0.5 ; 1.88,0.5 3.188,0.5 ; 5.543,-1.8 9.457,-1.8 ; 6.812,-0.5 8.188,-0.5 ; 6.812,0.5 8.188,0.5 ; 10.543,-1.8 14.457,-1.8 ; 11.812,-0.5 13.188,-0.5 ; 11.812,0.5 13.188,0.5 ; 15.543,-1.8 19.457,-1.8 ; 16.812,-0.5 18.188,-0.5 ; 16.812,0.5 18.188,0.5 ; 20.543,-1.8 24.457,-1.8 ; 21.812,-0.5 23.188,-0.5 ; 21.812,0.5 23.188,0.5 ; 25.543,-1.8 29.457,-1.8 ; 26.812,-0.5 28.188,-0.5 ; 26.812,0.5 28.188,0.5 ; 30.543,-1.8 34.457,-1.8 ; 31.812,-0.5 33.188,-0.5 ; 31.812,0.5 33.188,0.5 ; 35.543,-1.8 39.457,-1.8 ; 36.812,-0.5 38.188,-0.5 ; 36.812,0.5 38.188,0.5 ; 40.543,-1.8 44.457,-1.8 ; 41.812,-0.5 43.188,-0.5 ; 41.812,0.5 43.188,0.5 ; 45.543,-1.8 49.457,-1.8 ; 46.812,-0.5 48.188,-0.5 ; 46.812,0.5 48.188,0.5 ; 50.543,-1.8 54.457,-1.8 ; 51.812,-0.5 53.188,-0.5 ; 51.812,0.5 53.188,0.5 ; 55.543,-1.8 59.457,-1.8 ; 56.812,-0.5 58.188,-0.5 ; 56.812,0.5 58.188,0.5 ; 60.543,-1.8 64.457,-1.8 ; 61.812,-0.5 63.188,-0.5 ; 61.812,0.5 63.188,0.5 ; 65.543,-1.8 69.457,-1.8 ; 66.812,-0.5 68.188,-0.5 ; 66.812,0.5 68.188,0.5 ; 70.543,-1.8 74.457,-1.8 ; 71.812,-0.5 73.188,-0.5 ; 71.812,0.5 73.188,0.5 ; 75.543,-1.8 79.457,-1.8 ; 76.812,-0.5 78.188,-0.5 ; 76.812,0.5 78.188,0.5 ; 80.543,-1.8 82.62,-1.8 ; 81.812,-0.5 82.62,-0.5 ; 81.812,0.5 82.62,0.5
F.Fab:
  circle w0.254: c0,0 r1.6
  circle w0.254: c5,0 r1.6
  circle w0.254: c10,0 r1.6
  circle w0.254: c15,0 r1.6
  circle w0.254: c20,0 r1.6
  circle w0.254: c25,0 r1.6
  circle w0.254: c30,0 r1.6
  circle w0.254: c35,0 r1.6
  circle w0.254: c40,0 r1.6
  circle w0.254: c45,0 r1.6
  circle w0.254: c50,0 r1.6
  circle w0.254: c55,0 r1.6
  circle w0.254: c60,0 r1.6
  circle w0.254: c65,0 r1.6
  circle w0.254: c70,0 r1.6
  circle w0.254: c75,0 r1.6
  circle w0.254: c80,0 r1.6
  lines w0.254: -3,-1.8 82.5,-1.8 ; -3,-0.5 82.5,-0.5 ; -3,0.5 82.5,0.5 ; -1.213,-1.018 1.018,1.213 ; -1.018,-1.213 1.213,1.018 ; 3.787,-1.018 6.018,1.213 ; 3.982,-1.213 6.213,1.018 ; 8.787,-1.018 11.018,1.213 ; 8.982,-1.213 11.213,1.018 ; 13.787,-1.018 16.018,1.213 ; 13.982,-1.213 16.213,1.018 ; 18.787,-1.018 21.018,1.213 ; 18.982,-1.213 21.213,1.018 ; 23.787,-1.018 26.018,1.213 ; 23.982,-1.213 26.213,1.018 ; 28.787,-1.018 31.018,1.213 ; 28.982,-1.213 31.213,1.018 ; 33.787,-1.018 36.018,1.213 ; 33.982,-1.213 36.213,1.018 ; 38.787,-1.018 41.018,1.213 ; 38.982,-1.213 41.213,1.018 ; 43.787,-1.018 46.018,1.213 ; 43.982,-1.213 46.213,1.018 ; 48.787,-1.018 51.018,1.213 ; 48.982,-1.213 51.213,1.018 ; 53.787,-1.018 56.018,1.213 ; 53.982,-1.213 56.213,1.018 ; 58.787,-1.018 61.018,1.213 ; 58.982,-1.213 61.213,1.018 ; 63.787,-1.018 66.018,1.213 ; 63.982,-1.213 66.213,1.018 ; 68.787,-1.018 71.018,1.213 ; 68.982,-1.213 71.213,1.018 ; 73.787,-1.018 76.018,1.213 ; 73.982,-1.213 76.213,1.018 ; 78.787,-1.018 81.018,1.213 ; 78.982,-1.213 81.213,1.018 ; -3,-1.85 -3,4 82.5,4 82.5,-3.8 -1.05,-3.8 -3,-1.85
  text "'.Designator'" at 35.703,-3.49 h1
F.CrtYd:
  lines w0.254: -3.5,-4.31 -3.5,4.5 83,4.5 83,-4.31 -3.5,-4.31

## TerminalBlock_MaiXu_MX126-5.0-18P_1x18_P5.00mm [mm]
pads (18):
  rrect9% 2.8x2.8 hole 1.3: 1(0,0)
  round 2.8 hole 1.3: 2(5,0) 3(10,0) 4(15,0) 5(20,0) 6(25,0) 7(30,0) 8(35,0) 9(40,0) 10(45,0) 11(50,0) 12(55,0) 13(60,0) 14(65,0) 15(70,0) 16(75,0) 17(80,0) 18(85,0)
F.SilkS:
  region: 0.44,-4.53 -0.44,-4.53 0,-3.92
  lines w0.254: -3.12,-1.8 -1.88,-1.8 ; -3.12,-0.5 -1.88,-0.5 ; -3.12,0.5 -1.88,0.5 ; -0.3,-3.92 -3.12,-3.92 -3.12,4.12 87.62,4.12 87.62,-3.92 0.3,-3.92 ; 1.88,-1.8 4.457,-1.8 ; 1.88,-0.5 3.188,-0.5 ; 1.88,0.5 3.188,0.5 ; 5.543,-1.8 9.457,-1.8 ; 6.812,-0.5 8.188,-0.5 ; 6.812,0.5 8.188,0.5 ; 10.543,-1.8 14.457,-1.8 ; 11.812,-0.5 13.188,-0.5 ; 11.812,0.5 13.188,0.5 ; 15.543,-1.8 19.457,-1.8 ; 16.812,-0.5 18.188,-0.5 ; 16.812,0.5 18.188,0.5 ; 20.543,-1.8 24.457,-1.8 ; 21.812,-0.5 23.188,-0.5 ; 21.812,0.5 23.188,0.5 ; 25.543,-1.8 29.457,-1.8 ; 26.812,-0.5 28.188,-0.5 ; 26.812,0.5 28.188,0.5 ; 30.543,-1.8 34.457,-1.8 ; 31.812,-0.5 33.188,-0.5 ; 31.812,0.5 33.188,0.5 ; 35.543,-1.8 39.457,-1.8 ; 36.812,-0.5 38.188,-0.5 ; 36.812,0.5 38.188,0.5 ; 40.543,-1.8 44.457,-1.8 ; 41.812,-0.5 43.188,-0.5 ; 41.812,0.5 43.188,0.5 ; 45.543,-1.8 49.457,-1.8 ; 46.812,-0.5 48.188,-0.5 ; 46.812,0.5 48.188,0.5 ; 50.543,-1.8 54.457,-1.8 ; 51.812,-0.5 53.188,-0.5 ; 51.812,0.5 53.188,0.5 ; 55.543,-1.8 59.457,-1.8 ; 56.812,-0.5 58.188,-0.5 ; 56.812,0.5 58.188,0.5 ; 60.543,-1.8 64.457,-1.8 ; 61.812,-0.5 63.188,-0.5 ; 61.812,0.5 63.188,0.5 ; 65.543,-1.8 69.457,-1.8 ; 66.812,-0.5 68.188,-0.5 ; 66.812,0.5 68.188,0.5 ; 70.543,-1.8 74.457,-1.8 ; 71.812,-0.5 73.188,-0.5 ; 71.812,0.5 73.188,0.5 ; 75.543,-1.8 79.457,-1.8 ; 76.812,-0.5 78.188,-0.5 ; 76.812,0.5 78.188,0.5 ; 80.543,-1.8 84.457,-1.8 ; 81.812,-0.5 83.188,-0.5 ; 81.812,0.5 83.188,0.5 ; 85.543,-1.8 87.62,-1.8 ; 86.812,-0.5 87.62,-0.5 ; 86.812,0.5 87.62,0.5
F.Fab:
  circle w0.254: c0,0 r1.6
  circle w0.254: c5,0 r1.6
  circle w0.254: c10,0 r1.6
  circle w0.254: c15,0 r1.6
  circle w0.254: c20,0 r1.6
  circle w0.254: c25,0 r1.6
  circle w0.254: c30,0 r1.6
  circle w0.254: c35,0 r1.6
  circle w0.254: c40,0 r1.6
  circle w0.254: c45,0 r1.6
  circle w0.254: c50,0 r1.6
  circle w0.254: c55,0 r1.6
  circle w0.254: c60,0 r1.6
  circle w0.254: c65,0 r1.6
  circle w0.254: c70,0 r1.6
  circle w0.254: c75,0 r1.6
  circle w0.254: c80,0 r1.6
  circle w0.254: c85,0 r1.6
  lines w0.254: -3,-1.8 87.5,-1.8 ; -3,-0.5 87.5,-0.5 ; -3,0.5 87.5,0.5 ; -1.213,-1.018 1.018,1.213 ; -1.018,-1.213 1.213,1.018 ; 3.787,-1.018 6.018,1.213 ; 3.982,-1.213 6.213,1.018 ; 8.787,-1.018 11.018,1.213 ; 8.982,-1.213 11.213,1.018 ; 13.787,-1.018 16.018,1.213 ; 13.982,-1.213 16.213,1.018 ; 18.787,-1.018 21.018,1.213 ; 18.982,-1.213 21.213,1.018 ; 23.787,-1.018 26.018,1.213 ; 23.982,-1.213 26.213,1.018 ; 28.787,-1.018 31.018,1.213 ; 28.982,-1.213 31.213,1.018 ; 33.787,-1.018 36.018,1.213 ; 33.982,-1.213 36.213,1.018 ; 38.787,-1.018 41.018,1.213 ; 38.982,-1.213 41.213,1.018 ; 43.787,-1.018 46.018,1.213 ; 43.982,-1.213 46.213,1.018 ; 48.787,-1.018 51.018,1.213 ; 48.982,-1.213 51.213,1.018 ; 53.787,-1.018 56.018,1.213 ; 53.982,-1.213 56.213,1.018 ; 58.787,-1.018 61.018,1.213 ; 58.982,-1.213 61.213,1.018 ; 63.787,-1.018 66.018,1.213 ; 63.982,-1.213 66.213,1.018 ; 68.787,-1.018 71.018,1.213 ; 68.982,-1.213 71.213,1.018 ; 73.787,-1.018 76.018,1.213 ; 73.982,-1.213 76.213,1.018 ; 78.787,-1.018 81.018,1.213 ; 78.982,-1.213 81.213,1.018 ; 83.787,-1.018 86.018,1.213 ; 83.982,-1.213 86.213,1.018 ; -3,-1.85 -3,4 87.5,4 87.5,-3.8 -1.05,-3.8 -3,-1.85
  text "'.Designator'" at 38.203,-3.49 h1
F.CrtYd:
  lines w0.254: -3.5,-4.31 -3.5,4.5 88,4.5 88,-4.31 -3.5,-4.31

## TerminalBlock_MaiXu_MX126-5.0-19P_1x19_P5.00mm [mm]
pads (19):
  rrect9% 2.8x2.8 hole 1.3: 1(0,0)
  round 2.8 hole 1.3: 2(5,0) 3(10,0) 4(15,0) 5(20,0) 6(25,0) 7(30,0) 8(35,0) 9(40,0) 10(45,0) 11(50,0) 12(55,0) 13(60,0) 14(65,0) 15(70,0) 16(75,0) 17(80,0) 18(85,0) 19(90,0)
F.SilkS:
  region: 0.44,-4.53 -0.44,-4.53 0,-3.92
  lines w0.254: -3.12,-1.8 -1.88,-1.8 ; -3.12,-0.5 -1.88,-0.5 ; -3.12,0.5 -1.88,0.5 ; -0.3,-3.92 -3.12,-3.92 -3.12,4.12 92.62,4.12 92.62,-3.92 0.3,-3.92 ; 1.88,-1.8 4.457,-1.8 ; 1.88,-0.5 3.188,-0.5 ; 1.88,0.5 3.188,0.5 ; 5.543,-1.8 9.457,-1.8 ; 6.812,-0.5 8.188,-0.5 ; 6.812,0.5 8.188,0.5 ; 10.543,-1.8 14.457,-1.8 ; 11.812,-0.5 13.188,-0.5 ; 11.812,0.5 13.188,0.5 ; 15.543,-1.8 19.457,-1.8 ; 16.812,-0.5 18.188,-0.5 ; 16.812,0.5 18.188,0.5 ; 20.543,-1.8 24.457,-1.8 ; 21.812,-0.5 23.188,-0.5 ; 21.812,0.5 23.188,0.5 ; 25.543,-1.8 29.457,-1.8 ; 26.812,-0.5 28.188,-0.5 ; 26.812,0.5 28.188,0.5 ; 30.543,-1.8 34.457,-1.8 ; 31.812,-0.5 33.188,-0.5 ; 31.812,0.5 33.188,0.5 ; 35.543,-1.8 39.457,-1.8 ; 36.812,-0.5 38.188,-0.5 ; 36.812,0.5 38.188,0.5 ; 40.543,-1.8 44.457,-1.8 ; 41.812,-0.5 43.188,-0.5 ; 41.812,0.5 43.188,0.5 ; 45.543,-1.8 49.457,-1.8 ; 46.812,-0.5 48.188,-0.5 ; 46.812,0.5 48.188,0.5 ; 50.543,-1.8 54.457,-1.8 ; 51.812,-0.5 53.188,-0.5 ; 51.812,0.5 53.188,0.5 ; 55.543,-1.8 59.457,-1.8 ; 56.812,-0.5 58.188,-0.5 ; 56.812,0.5 58.188,0.5 ; 60.543,-1.8 64.457,-1.8 ; 61.812,-0.5 63.188,-0.5 ; 61.812,0.5 63.188,0.5 ; 65.543,-1.8 69.457,-1.8 ; 66.812,-0.5 68.188,-0.5 ; 66.812,0.5 68.188,0.5 ; 70.543,-1.8 74.457,-1.8 ; 71.812,-0.5 73.188,-0.5 ; 71.812,0.5 73.188,0.5 ; 75.543,-1.8 79.457,-1.8 ; 76.812,-0.5 78.188,-0.5 ; 76.812,0.5 78.188,0.5 ; 80.543,-1.8 84.457,-1.8 ; 81.812,-0.5 83.188,-0.5 ; 81.812,0.5 83.188,0.5 ; 85.543,-1.8 89.457,-1.8 ; 86.812,-0.5 88.188,-0.5 ; 86.812,0.5 88.188,0.5 ; 90.543,-1.8 92.62,-1.8 ; 91.812,-0.5 92.62,-0.5 ; 91.812,0.5 92.62,0.5
F.Fab:
  circle w0.254: c0,0 r1.6
  circle w0.254: c5,0 r1.6
  circle w0.254: c10,0 r1.6
  circle w0.254: c15,0 r1.6
  circle w0.254: c20,0 r1.6
  circle w0.254: c25,0 r1.6
  circle w0.254: c30,0 r1.6
  circle w0.254: c35,0 r1.6
  circle w0.254: c40,0 r1.6
  circle w0.254: c45,0 r1.6
  circle w0.254: c50,0 r1.6
  circle w0.254: c55,0 r1.6
  circle w0.254: c60,0 r1.6
  circle w0.254: c65,0 r1.6
  circle w0.254: c70,0 r1.6
  circle w0.254: c75,0 r1.6
  circle w0.254: c80,0 r1.6
  circle w0.254: c85,0 r1.6
  circle w0.254: c90,0 r1.6
  lines w0.254: -3,-1.8 92.5,-1.8 ; -3,-0.5 92.5,-0.5 ; -3,0.5 92.5,0.5 ; -1.213,-1.018 1.018,1.213 ; -1.018,-1.213 1.213,1.018 ; 3.787,-1.018 6.018,1.213 ; 3.982,-1.213 6.213,1.018 ; 8.787,-1.018 11.018,1.213 ; 8.982,-1.213 11.213,1.018 ; 13.787,-1.018 16.018,1.213 ; 13.982,-1.213 16.213,1.018 ; 18.787,-1.018 21.018,1.213 ; 18.982,-1.213 21.213,1.018 ; 23.787,-1.018 26.018,1.213 ; 23.982,-1.213 26.213,1.018 ; 28.787,-1.018 31.018,1.213 ; 28.982,-1.213 31.213,1.018 ; 33.787,-1.018 36.018,1.213 ; 33.982,-1.213 36.213,1.018 ; 38.787,-1.018 41.018,1.213 ; 38.982,-1.213 41.213,1.018 ; 43.787,-1.018 46.018,1.213 ; 43.982,-1.213 46.213,1.018 ; 48.787,-1.018 51.018,1.213 ; 48.982,-1.213 51.213,1.018 ; 53.787,-1.018 56.018,1.213 ; 53.982,-1.213 56.213,1.018 ; 58.787,-1.018 61.018,1.213 ; 58.982,-1.213 61.213,1.018 ; 63.787,-1.018 66.018,1.213 ; 63.982,-1.213 66.213,1.018 ; 68.787,-1.018 71.018,1.213 ; 68.982,-1.213 71.213,1.018 ; 73.787,-1.018 76.018,1.213 ; 73.982,-1.213 76.213,1.018 ; 78.787,-1.018 81.018,1.213 ; 78.982,-1.213 81.213,1.018 ; 83.787,-1.018 86.018,1.213 ; 83.982,-1.213 86.213,1.018 ; 88.787,-1.018 91.018,1.213 ; 88.982,-1.213 91.213,1.018 ; -3,-1.85 -3,4 92.5,4 92.5,-3.8 -1.05,-3.8 -3,-1.85
  text "'.Designator'" at 40.703,-3.49 h1
F.CrtYd:
  lines w0.254: -3.5,-4.31 -3.5,4.5 93,4.5 93,-4.31 -3.5,-4.31

## TerminalBlock_MaiXu_MX126-5.0-20P_1x20_P5.00mm [mm]
pads (20):
  rrect9% 2.8x2.8 hole 1.3: 1(0,0)
  round 2.8 hole 1.3: 2(5,0) 3(10,0) 4(15,0) 5(20,0) 6(25,0) 7(30,0) 8(35,0) 9(40,0) 10(45,0) 11(50,0) 12(55,0) 13(60,0) 14(65,0) 15(70,0) 16(75,0) 17(80,0) 18(85,0) 19(90,0) 20(95,0)
F.SilkS:
  region: 0.44,-4.53 -0.44,-4.53 0,-3.92
  lines w0.254: -3.12,-1.8 -1.88,-1.8 ; -3.12,-0.5 -1.88,-0.5 ; -3.12,0.5 -1.88,0.5 ; -0.3,-3.92 -3.12,-3.92 -3.12,4.12 97.62,4.12 97.62,-3.92 0.3,-3.92 ; 1.88,-1.8 4.457,-1.8 ; 1.88,-0.5 3.188,-0.5 ; 1.88,0.5 3.188,0.5 ; 5.543,-1.8 9.457,-1.8 ; 6.812,-0.5 8.188,-0.5 ; 6.812,0.5 8.188,0.5 ; 10.543,-1.8 14.457,-1.8 ; 11.812,-0.5 13.188,-0.5 ; 11.812,0.5 13.188,0.5 ; 15.543,-1.8 19.457,-1.8 ; 16.812,-0.5 18.188,-0.5 ; 16.812,0.5 18.188,0.5 ; 20.543,-1.8 24.457,-1.8 ; 21.812,-0.5 23.188,-0.5 ; 21.812,0.5 23.188,0.5 ; 25.543,-1.8 29.457,-1.8 ; 26.812,-0.5 28.188,-0.5 ; 26.812,0.5 28.188,0.5 ; 30.543,-1.8 34.457,-1.8 ; 31.812,-0.5 33.188,-0.5 ; 31.812,0.5 33.188,0.5 ; 35.543,-1.8 39.457,-1.8 ; 36.812,-0.5 38.188,-0.5 ; 36.812,0.5 38.188,0.5 ; 40.543,-1.8 44.457,-1.8 ; 41.812,-0.5 43.188,-0.5 ; 41.812,0.5 43.188,0.5 ; 45.543,-1.8 49.457,-1.8 ; 46.812,-0.5 48.188,-0.5 ; 46.812,0.5 48.188,0.5 ; 50.543,-1.8 54.457,-1.8 ; 51.812,-0.5 53.188,-0.5 ; 51.812,0.5 53.188,0.5 ; 55.543,-1.8 59.457,-1.8 ; 56.812,-0.5 58.188,-0.5 ; 56.812,0.5 58.188,0.5 ; 60.543,-1.8 64.457,-1.8 ; 61.812,-0.5 63.188,-0.5 ; 61.812,0.5 63.188,0.5 ; 65.543,-1.8 69.457,-1.8 ; 66.812,-0.5 68.188,-0.5 ; 66.812,0.5 68.188,0.5 ; 70.543,-1.8 74.457,-1.8 ; 71.812,-0.5 73.188,-0.5 ; 71.812,0.5 73.188,0.5 ; 75.543,-1.8 79.457,-1.8 ; 76.812,-0.5 78.188,-0.5 ; 76.812,0.5 78.188,0.5 ; 80.543,-1.8 84.457,-1.8 ; 81.812,-0.5 83.188,-0.5 ; 81.812,0.5 83.188,0.5 ; 85.543,-1.8 89.457,-1.8 ; 86.812,-0.5 88.188,-0.5 ; 86.812,0.5 88.188,0.5 ; 90.543,-1.8 94.457,-1.8 ; 91.812,-0.5 93.188,-0.5 ; 91.812,0.5 93.188,0.5 ; 95.543,-1.8 97.62,-1.8 ; 96.812,-0.5 97.62,-0.5 ; 96.812,0.5 97.62,0.5
F.Fab:
  circle w0.254: c0,0 r1.6
  circle w0.254: c5,0 r1.6
  circle w0.254: c10,0 r1.6
  circle w0.254: c15,0 r1.6
  circle w0.254: c20,0 r1.6
  circle w0.254: c25,0 r1.6
  circle w0.254: c30,0 r1.6
  circle w0.254: c35,0 r1.6
  circle w0.254: c40,0 r1.6
  circle w0.254: c45,0 r1.6
  circle w0.254: c50,0 r1.6
  circle w0.254: c55,0 r1.6
  circle w0.254: c60,0 r1.6
  circle w0.254: c65,0 r1.6
  circle w0.254: c70,0 r1.6
  circle w0.254: c75,0 r1.6
  circle w0.254: c80,0 r1.6
  circle w0.254: c85,0 r1.6
  circle w0.254: c90,0 r1.6
  circle w0.254: c95,0 r1.6
  lines w0.254: -3,-1.8 97.5,-1.8 ; -3,-0.5 97.5,-0.5 ; -3,0.5 97.5,0.5 ; -1.213,-1.018 1.018,1.213 ; -1.018,-1.213 1.213,1.018 ; 3.787,-1.018 6.018,1.213 ; 3.982,-1.213 6.213,1.018 ; 8.787,-1.018 11.018,1.213 ; 8.982,-1.213 11.213,1.018 ; 13.787,-1.018 16.018,1.213 ; 13.982,-1.213 16.213,1.018 ; 18.787,-1.018 21.018,1.213 ; 18.982,-1.213 21.213,1.018 ; 23.787,-1.018 26.018,1.213 ; 23.982,-1.213 26.213,1.018 ; 28.787,-1.018 31.018,1.213 ; 28.982,-1.213 31.213,1.018 ; 33.787,-1.018 36.018,1.213 ; 33.982,-1.213 36.213,1.018 ; 38.787,-1.018 41.018,1.213 ; 38.982,-1.213 41.213,1.018 ; 43.787,-1.018 46.018,1.213 ; 43.982,-1.213 46.213,1.018 ; 48.787,-1.018 51.018,1.213 ; 48.982,-1.213 51.213,1.018 ; 53.787,-1.018 56.018,1.213 ; 53.982,-1.213 56.213,1.018 ; 58.787,-1.018 61.018,1.213 ; 58.982,-1.213 61.213,1.018 ; 63.787,-1.018 66.018,1.213 ; 63.982,-1.213 66.213,1.018 ; 68.787,-1.018 71.018,1.213 ; 68.982,-1.213 71.213,1.018 ; 73.787,-1.018 76.018,1.213 ; 73.982,-1.213 76.213,1.018 ; 78.787,-1.018 81.018,1.213 ; 78.982,-1.213 81.213,1.018 ; 83.787,-1.018 86.018,1.213 ; 83.982,-1.213 86.213,1.018 ; 88.787,-1.018 91.018,1.213 ; 88.982,-1.213 91.213,1.018 ; 93.787,-1.018 96.018,1.213 ; 93.982,-1.213 96.213,1.018 ; -3,-1.85 -3,4 97.5,4 97.5,-3.8 -1.05,-3.8 -3,-1.85
  text "'.Designator'" at 43.203,-3.49 h1
F.CrtYd:
  lines w0.254: -3.5,-4.31 -3.5,4.5 98,4.5 98,-4.31 -3.5,-4.31

## TerminalBlock_MaiXu_MX126-5.0-21P_1x21_P5.00mm [mm]
pads (21):
  rrect9% 2.8x2.8 hole 1.3: 1(0,0)
  round 2.8 hole 1.3: 2(5,0) 3(10,0) 4(15,0) 5(20,0) 6(25,0) 7(30,0) 8(35,0) 9(40,0) 10(45,0) 11(50,0) 12(55,0) 13(60,0) 14(65,0) 15(70,0) 16(75,0) 17(80,0) 18(85,0) 19(90,0) 20(95,0) 21(100,0)
F.SilkS:
  region: 0.44,-4.53 -0.44,-4.53 0,-3.92
  lines w0.254: -3.12,-1.8 -1.88,-1.8 ; -3.12,-0.5 -1.88,-0.5 ; -3.12,0.5 -1.88,0.5 ; -0.3,-3.92 -3.12,-3.92 -3.12,4.12 102.62,4.12 102.62,-3.92 0.3,-3.92 ; 1.88,-1.8 4.457,-1.8 ; 1.88,-0.5 3.188,-0.5 ; 1.88,0.5 3.188,0.5 ; 5.543,-1.8 9.457,-1.8 ; 6.812,-0.5 8.188,-0.5 ; 6.812,0.5 8.188,0.5 ; 10.543,-1.8 14.457,-1.8 ; 11.812,-0.5 13.188,-0.5 ; 11.812,0.5 13.188,0.5 ; 15.543,-1.8 19.457,-1.8 ; 16.812,-0.5 18.188,-0.5 ; 16.812,0.5 18.188,0.5 ; 20.543,-1.8 24.457,-1.8 ; 21.812,-0.5 23.188,-0.5 ; 21.812,0.5 23.188,0.5 ; 25.543,-1.8 29.457,-1.8 ; 26.812,-0.5 28.188,-0.5 ; 26.812,0.5 28.188,0.5 ; 30.543,-1.8 34.457,-1.8 ; 31.812,-0.5 33.188,-0.5 ; 31.812,0.5 33.188,0.5 ; 35.543,-1.8 39.457,-1.8 ; 36.812,-0.5 38.188,-0.5 ; 36.812,0.5 38.188,0.5 ; 40.543,-1.8 44.457,-1.8 ; 41.812,-0.5 43.188,-0.5 ; 41.812,0.5 43.188,0.5 ; 45.543,-1.8 49.457,-1.8 ; 46.812,-0.5 48.188,-0.5 ; 46.812,0.5 48.188,0.5 ; 50.543,-1.8 54.457,-1.8 ; 51.812,-0.5 53.188,-0.5 ; 51.812,0.5 53.188,0.5 ; 55.543,-1.8 59.457,-1.8 ; 56.812,-0.5 58.188,-0.5 ; 56.812,0.5 58.188,0.5 ; 60.543,-1.8 64.457,-1.8 ; 61.812,-0.5 63.188,-0.5 ; 61.812,0.5 63.188,0.5 ; 65.543,-1.8 69.457,-1.8 ; 66.812,-0.5 68.188,-0.5 ; 66.812,0.5 68.188,0.5 ; 70.543,-1.8 74.457,-1.8 ; 71.812,-0.5 73.188,-0.5 ; 71.812,0.5 73.188,0.5 ; 75.543,-1.8 79.457,-1.8 ; 76.812,-0.5 78.188,-0.5 ; 76.812,0.5 78.188,0.5 ; 80.543,-1.8 84.457,-1.8 ; 81.812,-0.5 83.188,-0.5 ; 81.812,0.5 83.188,0.5 ; 85.543,-1.8 89.457,-1.8 ; 86.812,-0.5 88.188,-0.5 ; 86.812,0.5 88.188,0.5 ; 90.543,-1.8 94.457,-1.8 ; 91.812,-0.5 93.188,-0.5 ; 91.812,0.5 93.188,0.5 ; 95.543,-1.8 99.457,-1.8 ; 96.812,-0.5 98.188,-0.5 ; 96.812,0.5 98.188,0.5 ; 100.543,-1.8 102.62,-1.8 ; 101.812,-0.5 102.62,-0.5 ; 101.812,0.5 102.62,0.5
F.Fab:
  circle w0.254: c0,0 r1.6
  circle w0.254: c5,0 r1.6
  circle w0.254: c10,0 r1.6
  circle w0.254: c15,0 r1.6
  circle w0.254: c20,0 r1.6
  circle w0.254: c25,0 r1.6
  circle w0.254: c30,0 r1.6
  circle w0.254: c35,0 r1.6
  circle w0.254: c40,0 r1.6
  circle w0.254: c45,0 r1.6
  circle w0.254: c50,0 r1.6
  circle w0.254: c55,0 r1.6
  circle w0.254: c60,0 r1.6
  circle w0.254: c65,0 r1.6
  circle w0.254: c70,0 r1.6
  circle w0.254: c75,0 r1.6
  circle w0.254: c80,0 r1.6
  circle w0.254: c85,0 r1.6
  circle w0.254: c90,0 r1.6
  circle w0.254: c95,0 r1.6
  circle w0.254: c100,0 r1.6
  lines w0.254: -3,-1.8 102.5,-1.8 ; -3,-0.5 102.5,-0.5 ; -3,0.5 102.5,0.5 ; -1.213,-1.018 1.018,1.213 ; -1.018,-1.213 1.213,1.018 ; 3.787,-1.018 6.018,1.213 ; 3.982,-1.213 6.213,1.018 ; 8.787,-1.018 11.018,1.213 ; 8.982,-1.213 11.213,1.018 ; 13.787,-1.018 16.018,1.213 ; 13.982,-1.213 16.213,1.018 ; 18.787,-1.018 21.018,1.213 ; 18.982,-1.213 21.213,1.018 ; 23.787,-1.018 26.018,1.213 ; 23.982,-1.213 26.213,1.018 ; 28.787,-1.018 31.018,1.213 ; 28.982,-1.213 31.213,1.018 ; 33.787,-1.018 36.018,1.213 ; 33.982,-1.213 36.213,1.018 ; 38.787,-1.018 41.018,1.213 ; 38.982,-1.213 41.213,1.018 ; 43.787,-1.018 46.018,1.213 ; 43.982,-1.213 46.213,1.018 ; 48.787,-1.018 51.018,1.213 ; 48.982,-1.213 51.213,1.018 ; 53.787,-1.018 56.018,1.213 ; 53.982,-1.213 56.213,1.018 ; 58.787,-1.018 61.018,1.213 ; 58.982,-1.213 61.213,1.018 ; 63.787,-1.018 66.018,1.213 ; 63.982,-1.213 66.213,1.018 ; 68.787,-1.018 71.018,1.213 ; 68.982,-1.213 71.213,1.018 ; 73.787,-1.018 76.018,1.213 ; 73.982,-1.213 76.213,1.018 ; 78.787,-1.018 81.018,1.213 ; 78.982,-1.213 81.213,1.018 ; 83.787,-1.018 86.018,1.213 ; 83.982,-1.213 86.213,1.018 ; 88.787,-1.018 91.018,1.213 ; 88.982,-1.213 91.213,1.018 ; 93.787,-1.018 96.018,1.213 ; 93.982,-1.213 96.213,1.018 ; 98.787,-1.018 101.018,1.213 ; 98.982,-1.213 101.213,1.018 ; -3,-1.85 -3,4 102.5,4 102.5,-3.8 -1.05,-3.8 -3,-1.85
  text "'.Designator'" at 45.703,-3.49 h1
F.CrtYd:
  lines w0.254: -3.5,-4.31 -3.5,4.5 103,4.5 103,-4.31 -3.5,-4.31

## TerminalBlock_MaiXu_MX126-5.0-22P_1x22_P5.00mm [mm]
pads (22):
  rrect9% 2.8x2.8 hole 1.3: 1(0,0)
  round 2.8 hole 1.3: 2(5,0) 3(10,0) 4(15,0) 5(20,0) 6(25,0) 7(30,0) 8(35,0) 9(40,0) 10(45,0) 11(50,0) 12(55,0) 13(60,0) 14(65,0) 15(70,0) 16(75,0) 17(80,0) 18(85,0) 19(90,0) 20(95,0) 21(100,0) 22(105,0)
F.SilkS:
  region: 0.44,-4.53 -0.44,-4.53 0,-3.92
  lines w0.254: -3.12,-1.8 -1.88,-1.8 ; -3.12,-0.5 -1.88,-0.5 ; -3.12,0.5 -1.88,0.5 ; -0.3,-3.92 -3.12,-3.92 -3.12,4.12 107.62,4.12 107.62,-3.92 0.3,-3.92 ; 1.88,-1.8 4.457,-1.8 ; 1.88,-0.5 3.188,-0.5 ; 1.88,0.5 3.188,0.5 ; 5.543,-1.8 9.457,-1.8 ; 6.812,-0.5 8.188,-0.5 ; 6.812,0.5 8.188,0.5 ; 10.543,-1.8 14.457,-1.8 ; 11.812,-0.5 13.188,-0.5 ; 11.812,0.5 13.188,0.5 ; 15.543,-1.8 19.457,-1.8 ; 16.812,-0.5 18.188,-0.5 ; 16.812,0.5 18.188,0.5 ; 20.543,-1.8 24.457,-1.8 ; 21.812,-0.5 23.188,-0.5 ; 21.812,0.5 23.188,0.5 ; 25.543,-1.8 29.457,-1.8 ; 26.812,-0.5 28.188,-0.5 ; 26.812,0.5 28.188,0.5 ; 30.543,-1.8 34.457,-1.8 ; 31.812,-0.5 33.188,-0.5 ; 31.812,0.5 33.188,0.5 ; 35.543,-1.8 39.457,-1.8 ; 36.812,-0.5 38.188,-0.5 ; 36.812,0.5 38.188,0.5 ; 40.543,-1.8 44.457,-1.8 ; 41.812,-0.5 43.188,-0.5 ; 41.812,0.5 43.188,0.5 ; 45.543,-1.8 49.457,-1.8 ; 46.812,-0.5 48.188,-0.5 ; 46.812,0.5 48.188,0.5 ; 50.543,-1.8 54.457,-1.8 ; 51.812,-0.5 53.188,-0.5 ; 51.812,0.5 53.188,0.5 ; 55.543,-1.8 59.457,-1.8 ; 56.812,-0.5 58.188,-0.5 ; 56.812,0.5 58.188,0.5 ; 60.543,-1.8 64.457,-1.8 ; 61.812,-0.5 63.188,-0.5 ; 61.812,0.5 63.188,0.5 ; 65.543,-1.8 69.457,-1.8 ; 66.812,-0.5 68.188,-0.5 ; 66.812,0.5 68.188,0.5 ; 70.543,-1.8 74.457,-1.8 ; 71.812,-0.5 73.188,-0.5 ; 71.812,0.5 73.188,0.5 ; 75.543,-1.8 79.457,-1.8 ; 76.812,-0.5 78.188,-0.5 ; 76.812,0.5 78.188,0.5 ; 80.543,-1.8 84.457,-1.8 ; 81.812,-0.5 83.188,-0.5 ; 81.812,0.5 83.188,0.5 ; 85.543,-1.8 89.457,-1.8 ; 86.812,-0.5 88.188,-0.5 ; 86.812,0.5 88.188,0.5 ; 90.543,-1.8 94.457,-1.8 ; 91.812,-0.5 93.188,-0.5 ; 91.812,0.5 93.188,0.5 ; 95.543,-1.8 99.457,-1.8 ; 96.812,-0.5 98.188,-0.5 ; 96.812,0.5 98.188,0.5 ; 100.543,-1.8 104.457,-1.8 ; 101.812,-0.5 103.188,-0.5 ; 101.812,0.5 103.188,0.5 ; 105.543,-1.8 107.62,-1.8 ; 106.812,-0.5 107.62,-0.5 ; 106.812,0.5 107.62,0.5
F.Fab:
  circle w0.254: c0,0 r1.6
  circle w0.254: c5,0 r1.6
  circle w0.254: c10,0 r1.6
  circle w0.254: c15,0 r1.6
  circle w0.254: c20,0 r1.6
  circle w0.254: c25,0 r1.6
  circle w0.254: c30,0 r1.6
  circle w0.254: c35,0 r1.6
  circle w0.254: c40,0 r1.6
  circle w0.254: c45,0 r1.6
  circle w0.254: c50,0 r1.6
  circle w0.254: c55,0 r1.6
  circle w0.254: c60,0 r1.6
  circle w0.254: c65,0 r1.6
  circle w0.254: c70,0 r1.6
  circle w0.254: c75,0 r1.6
  circle w0.254: c80,0 r1.6
  circle w0.254: c85,0 r1.6
  circle w0.254: c90,0 r1.6
  circle w0.254: c95,0 r1.6
  circle w0.254: c100,0 r1.6
  circle w0.254: c105,0 r1.6
  lines w0.254: -3,-1.8 107.5,-1.8 ; -3,-0.5 107.5,-0.5 ; -3,0.5 107.5,0.5 ; -1.213,-1.018 1.018,1.213 ; -1.018,-1.213 1.213,1.018 ; 3.787,-1.018 6.018,1.213 ; 3.982,-1.213 6.213,1.018 ; 8.787,-1.018 11.018,1.213 ; 8.982,-1.213 11.213,1.018 ; 13.787,-1.018 16.018,1.213 ; 13.982,-1.213 16.213,1.018 ; 18.787,-1.018 21.018,1.213 ; 18.982,-1.213 21.213,1.018 ; 23.787,-1.018 26.018,1.213 ; 23.982,-1.213 26.213,1.018 ; 28.787,-1.018 31.018,1.213 ; 28.982,-1.213 31.213,1.018 ; 33.787,-1.018 36.018,1.213 ; 33.982,-1.213 36.213,1.018 ; 38.787,-1.018 41.018,1.213 ; 38.982,-1.213 41.213,1.018 ; 43.787,-1.018 46.018,1.213 ; 43.982,-1.213 46.213,1.018 ; 48.787,-1.018 51.018,1.213 ; 48.982,-1.213 51.213,1.018 ; 53.787,-1.018 56.018,1.213 ; 53.982,-1.213 56.213,1.018 ; 58.787,-1.018 61.018,1.213 ; 58.982,-1.213 61.213,1.018 ; 63.787,-1.018 66.018,1.213 ; 63.982,-1.213 66.213,1.018 ; 68.787,-1.018 71.018,1.213 ; 68.982,-1.213 71.213,1.018 ; 73.787,-1.018 76.018,1.213 ; 73.982,-1.213 76.213,1.018 ; 78.787,-1.018 81.018,1.213 ; 78.982,-1.213 81.213,1.018 ; 83.787,-1.018 86.018,1.213 ; 83.982,-1.213 86.213,1.018 ; 88.787,-1.018 91.018,1.213 ; 88.982,-1.213 91.213,1.018 ; 93.787,-1.018 96.018,1.213 ; 93.982,-1.213 96.213,1.018 ; 98.787,-1.018 101.018,1.213 ; 98.982,-1.213 101.213,1.018 ; 103.787,-1.018 106.018,1.213 ; 103.982,-1.213 106.213,1.018 ; -3,-1.85 -3,4 107.5,4 107.5,-3.8 -1.05,-3.8 -3,-1.85
  text "'.Designator'" at 48.203,-3.49 h1
F.CrtYd:
  lines w0.254: -3.5,-4.31 -3.5,4.5 108,4.5 108,-4.31 -3.5,-4.31